# Altium schematic symbol library USBConnectors.SCHLIB: 14 symbols
Pins are listed as number, name and electrical type; pins without a type are passive.

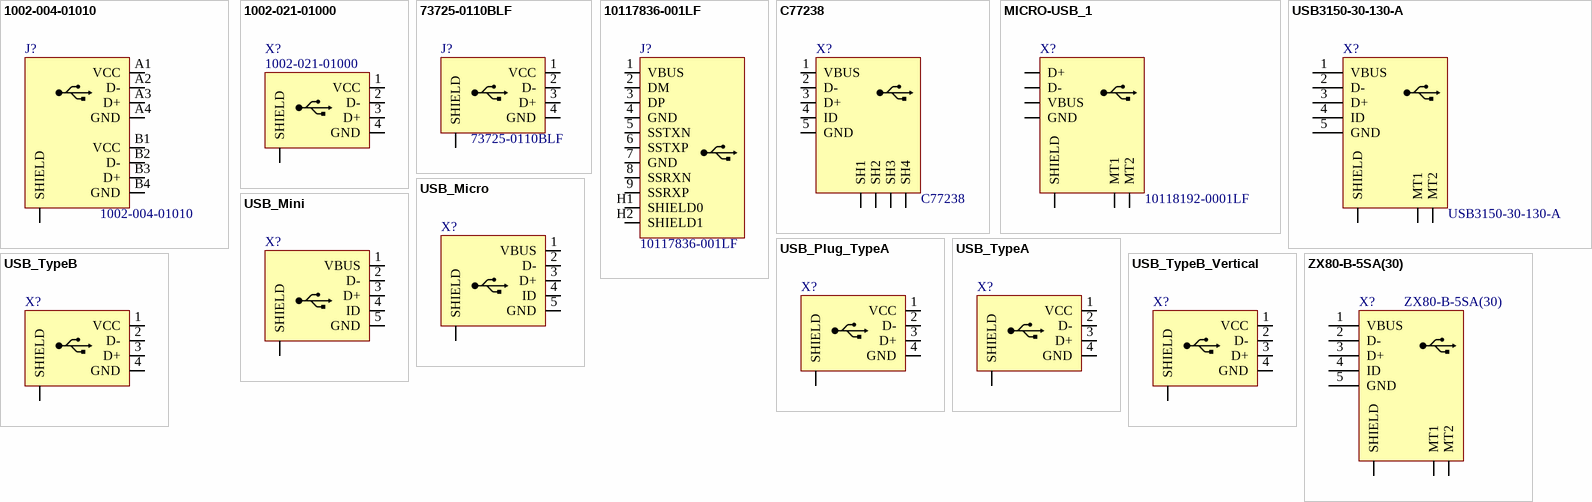
[diagram p0: symbols 1002-004-01010 to ZX80-B-5SA(30)]

## 1002-004-01010
designator J?
CONN USB A TYPE R/A DUAL T/H; Manufacturer: CNC Tech; Connector Type: USB - A, Stacked; Number of Contacts: 8; Gender: Receptacle; Specifications: USB 2.0; Number of Ports: 2; Current Rating: 1.5A; Voltage - Rated: 30V; Mating Cycles: 1500; Material Flammability Rating: UL94 V-0; Supplier 1: Digi-Key; Manufacturer Part Number: 1002-004-01010; RoHS: RoHS Compliant; Category: Connectors, Interconnects; Stock 1: 43520; Pricing 1: 1=1.1, 10=0.969, 25=0.912, 50=0.874, 100=0.836, 250=0.76, 500=0.684, 1000=0.608, 2500=0.551 (USD); Packaging: Tray; Part Status: Active; Mounting Type: Through Hole, Right Angle; Mounting Feature: Horizontal; Termination: Solder; Features: Board Lock; Ingress Protection: -; Operating Temperature: -55°C ~ 85°C; Shielding: -; Contact Finish: Gold; Shell/Shielding Material: Brass, Steel; Insulation Color: -; ComponentLink1URL: http://cnctech.us/pdfs/1002-004-01010.pdf; ComponentLink1Description: http://cnctech.us/pdfs/1002-004-01010.pdf; Value: 1002-004-01010; Supplier Part Number 1: 1175-1018-ND
footprint 1002-004-01010
pins: A1 VCC, A2 D-, A3 D+, A4 GND, B1 VCC, B2 D-, B3 D+, B4 GND, SHIELD

## 1002-021-01000
designator X?
USB 2.0 A/FEMALE DIP 180 DEG; Manufacturer: CNC Tech; Connector Type: USB - A; Number of Contacts: 4; Gender: Receptacle; Specifications: USB 2.0; Number of Ports: 1; Current Rating: 1.5A; Voltage - Rated: 30V; Mating Cycles: 1500; Material Flammability Rating: UL94 V-0; Supplier 1: Digi-Key; Manufacturer Part Number: 1002-021-01000; RoHS: RoHS Compliant; Category: Connectors, Interconnects; Stock 1: 16254; Pricing 1: 1=0.84, 10=0.74, 25=0.696, 50=0.667, 100=0.638, 250=0.58, 500=0.522, 1000=0.464, 2500=0.4205 (USD); Packaging: Tray; Part Status: Active; Mounting Type: Through Hole; Mounting Feature: Vertical; Termination: Solder; Features: Board Lock; Ingress Protection: -; Operating Temperature: -55°C ~ 85°C; Shielding: -; Contact Finish: -; Shell/Shielding Material: Brass; Insulation Color: Black; ComponentLink1URL: http://www.cnctech.us/pdfs/1002-021-01000.pdf; ComponentLink1Description: http://www.cnctech.us/pdfs/1002-021-01000.pdf; Value: 1002-021-01000; Supplier Part Number 1: 1175-1265-ND
footprint USB_TypeA-Vertical
pins: 1 VCC, 2 D-, 3 D+, 4 GND, SHIELD

## 73725-0110BLF
designator J?
CONN RCPT USB TYPE A FLAG PCB; Manufacturer: Amphenol FCI; Connector Type: USB - A; Number of Contacts: 4; Gender: Receptacle; Specifications: USB 2.0; Number of Ports: 1; Current Rating: 2.5A; Mating Cycles: 1500; Shielding: Shielded; Material Flammability Rating: UL94 V-0; Supplier 1: Digi-Key; Manufacturer Part Number: 73725-0110BLF; RoHS: RoHS Compliant; Category: Connectors, Interconnects; Stock 1: 32534; Pricing 1: 1=0.84, 10=0.742, 25=0.6984, 50=0.6694, 100=0.6402, 250=0.582, 500=0.5238, 1000=0.4656, 2500=0.42195 (USD); Packaging: Tube; Part Status: Active; Mounting Type: Through Hole, Right Angle; Mounting Feature: Vertical; Termination: Solder; Features: Board Lock, Sensor Contact; Ingress Protection: -; Operating Temperature: -55°C ~ 85°C; Voltage - Rated: -; Contact Finish: Gold, GXT™; Shell/Shielding Material: Copper Alloy; Insulation Color: White; ComponentLink1URL: http://portal.fciconnect.com/Comergent//fci/drawing/73725.pdf; ComponentLink1Description: http://portal.fciconnect.com/Comergent//fci/drawing/73725.pdf; Value: 73725-0110BLF; Supplier Part Number 1: 609-1041-ND
footprint 73725-0110BLF
pins: 1 VCC, 2 D-, 3 D+, 4 GND, SHIELD

## 10117836-001LF
designator J?
USB 3.0 Receptacle , FCI, SMT, Type A, Right Angle; Source1Partnumber: 609-4663-ND; Populated: Yes; Source1: Digikey; Source1Price: 1.15; Source1Qty: 1; ComponentLink1Description: Manufacturer Web; ComponentLink2Description: Datasheet Web; ComponentLink3Description: Digikey Web; LatestRevisionDate: 21-Dec-2015; PackageReference: TH; ROHS: Yes; Value: 10117836-001LF; Manuf1: FCI; Manuf1Partnumber: 10117836-001LF
footprint USB_3_0_A - Vertical
pins: 1 VBUS, 2 DM, 3 DP, 4 GND, 5 SSTXN, 6 SSTXP, 7 GND, 8 SSRXN, 9 SSRXP, H1 SHIELD0, H2 SHIELD1

## C77238
designator X?
USB - MICRO B FEMALE USB 2 5 SMD ROHS; Manuf1: Jing Extension of the Electronic Co.; Populated: Yes; Value: C77238; ROHS: Yes; Manuf1Partnumber: C77238; Supplier 1: LCSC; Supplier Part Number 1: C77238; ClassName: *; Code_JEDEC: *; HelpURL: *
footprint MICRO-USB_MICRO-USB-17
pins: 1 VBUS, 2 D-, 3 D+, 4 ID, 5 GND, SH1, SH2, SH3, SH4

## MICRO-USB_1
designator X?, comment 10118192-0001LF
USB - micro B USB 2.0 Receptáculo Conector 5pos; Populated: Yes; Value: 10118192-0001LF; ROHS: Yes; Manuf1: *; Manuf1Partnumber: 10118192-0001LF; Supplier 1: Digi-Key; Supplier 2: Mouser; Supplier Part Number 1: 609-4613-6-ND; Supplier Part Number 2: 649-10118192-0001LF; ClassName: *; Code_JEDEC: *; HelpURL: *
footprint USB-MICROB
footprint USB-MICROB - NO3D
pins: D+, D-, GND, MT1, MT2, SHIELD, VBUS

## USB3150-30-130-A
designator X?
USB Connector, Micro USB Type B, USB 2.0, Plug, 5 Positions, Through Hole Mount, Vertical; Manuf1: GLOBAL CONNECTOR TECHNOLOGY; Populated: Yes; Value: USB3150-30-130-A; ROHS: Yes; Manuf1Partnumber: USB3150-30-130-A; Supplier 1: Digi-Key; Supplier 2: Mouser; Supplier Part Number 1: 609-4613-6-ND; Supplier Part Number 2: 649-10118192-0001LF; ClassName: *; Code_JEDEC: *; HelpURL: *
footprint USB3150
pins: 1 VBUS, 2 D-, 3 D+, 4 ID, 5 GND, MT1, MT2, S SHIELD

## USB_Micro
designator X?
USB; Populated: Yes; ROHS: Yes
footprint USB_Micro-AB
footprint USB_Micro-B
pins: 1 VBUS, 2 D-, 3 D+, 4 ID, 5 GND, SHIELD

## USB_Mini
designator X?
USB; Populated: Yes; ROHS: Yes
footprint USB_MINI-B
pins: 1 VBUS, 2 D-, 3 D+, 4 ID, 5 GND, SHIELD

## USB_Plug_TypeA
designator X?, comment 1001-011-01101  (value not drawn)
Right Angle Type A USB Connector SMT Plug, 30 V, 1A; Manuf1: CNC Tech; Populated: Yes; Manuf1Partnumber: 1001-011-01101; PackageReference: USB-A; ROHS: Yes; Value: 1001-011-01101; Supplier 1: Digi-Key; Supplier Part Number 1: 1175-1008-ND
footprint USB_Plug_TypeA
footprint USB_Plug_Type-VER
pins: 1 VCC, 2 D-, 3 D+, 4 GND, SHIELD

## USB_TypeA
designator X?, comment UE27AC54100  (value not drawn)
USB - A USB 2.0 Receptacle Connector 4 Position Through Hole, Right Angle, Horizontal; Manuf1: Amphenol; Populated: Yes; Manuf1Partnumber: UE27AC54100; ROHS: Yes; Value: UE27AC54100; Supplier 1: Digi-Key; Supplier 2: Mouser; Supplier 3: Allied; Supplier Part Number 1: UE27AC54100-ND; Supplier Part Number 2: 523-UE27-AC54-100; Supplier Part Number 3: 70323399
footprint USB_TypeA
footprint USB_TYPEA SMD
footprint USB_TypeA-Vertical
pins: 1 VCC, 2 D-, 3 D+, 4 GND, SHIELD

## USB_TypeB
designator X?, comment USB-B1HSW6  (value not drawn)
USB - B Receptacle Connector 4 Position Through Hole, Right Angle, Horizontal; Populated: Yes; Manuf1Partnumber: USB-B1HSW6; PackageReference: USB-B; ROHS: Yes; Value: USB-B1HSW6; Supplier 1: Digi-Key; Supplier Part Number 1: ED2982-ND
footprint USB_TypeB
pins: 1 VCC, 2 D-, 3 D+, 4 GND, SHIELD

## USB_TypeB_Vertical
designator X?, comment USB-B1HSW6  (value not drawn)
USB - B Receptacle Connector 4 Position Through Hole, Right Angle, Horizontal; Populated: Yes; Manuf1Partnumber: USB-B1HSW6; PackageReference: USB-B; ROHS: Yes; Value: USB-B1HSW6; Supplier 1: Digi-Key; Supplier Part Number 1: 151-1083-ND
footprint USB_TYPE_B_VERTICAL_RECEP
pins: 1 VCC, 2 D-, 3 D+, 4 GND, SH SHIELD

## ZX80-B-5SA(30)
designator X?
HIROSE(HRS)         ZX80-B-5SA(30)             USB Connector, Cradle, Micro USB Type B, USB 2.0, Plug, 5 Ways, Surface Mount, Through Hole Mount; Number of Contacts: 5; Gender: Male; Current Rating: 1A; Contact Resistance: 30mR; USB Standard: USB 2.0; Supplier 1: Digi-Key; Supplier Part Number 1: H125243-ND; Manufacturer: Hirose; Manufacturer Part Number: ZX80-B-5SA(30); Stock 1: 4982; Pricing 1: 1=1.36, 10=1.199, 25=1.128, 50=1.081, 100=1.034, 250=0.94, 500=0.846, 1000=0.752 (USD); Mount: Surface Mount,Vertical; Contact Material: Copper Alloy; Contact Plating: Gold; Colour: Black; Packaging: Bulk; Connector Type: USB; Orientation: Vertical; REACH SVHC: Unknown; Flammability Rating: UL94 V-0; Lead Free: Lead Free; ComponentLink1URL: https://www.hirose.com/product/en/download_file/key_name/ZX/category/Catalog/doc_file_id/31704/?file_category_id=4&item_id=13&is_series=1; ComponentLink1Description: https://www.hirose.com/product/en/download_file/key_name/ZX/category/Catalog/doc_file_id/31704/?file_category_id=4&item_id=13&is_series=1; ComponentLink2URL: http://www.farnell.com/datasheets/2060515.pdf; ComponentLink2Description: http://www.farnell.com/datasheets/2060515.pdf; Value: ZX80-B-5SA(30)
footprint ZX80-B-5SA(30)
pins: 1 VBUS, 2 D-, 3 D+, 4 ID, 5 GND, MT1, MT2, S SHIELD